# EAGLE library part VN5160S-E (library HAB)
VN5160S-E Single channel high side driver for automotive applications
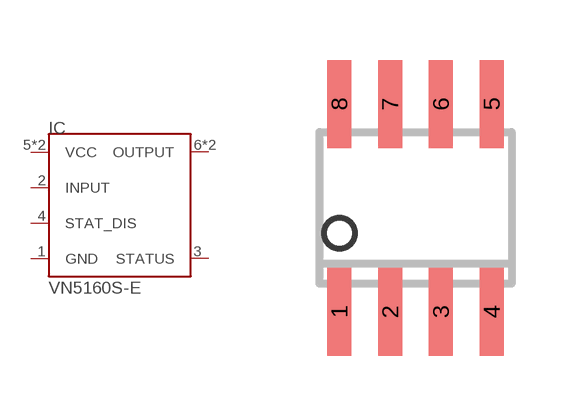
[diagram p11: symbol with the pads of SO8; footprint SO8]

Designator prefix IC

## VN5160S-E  [SO8]
1  GND  pwr
2  INPUT  in
3  STATUS  oc
4  STAT_DIS  in
5  VCC  pwr
6  OUTPUT  pas
7  OUTPUT  pas
8  VCC  pwr

## Footprint SO8 (pad centres in mm)
SMALL OUTLINE INTEGRATED CIRCUIT
smd 0.6 x 2.2: 1 -1.905,-2.6; 2 -0.635,-2.6; 3 0.635,-2.6; 4 1.905,-2.6; 5 1.905,2.6; 6 0.635,2.6; 7 -0.635,2.6; 8 -1.905,2.6